# Altium integrated library TI Data Converters Analog to Digital Converter.IntLib: 2197 symbols (part 44 of 168)
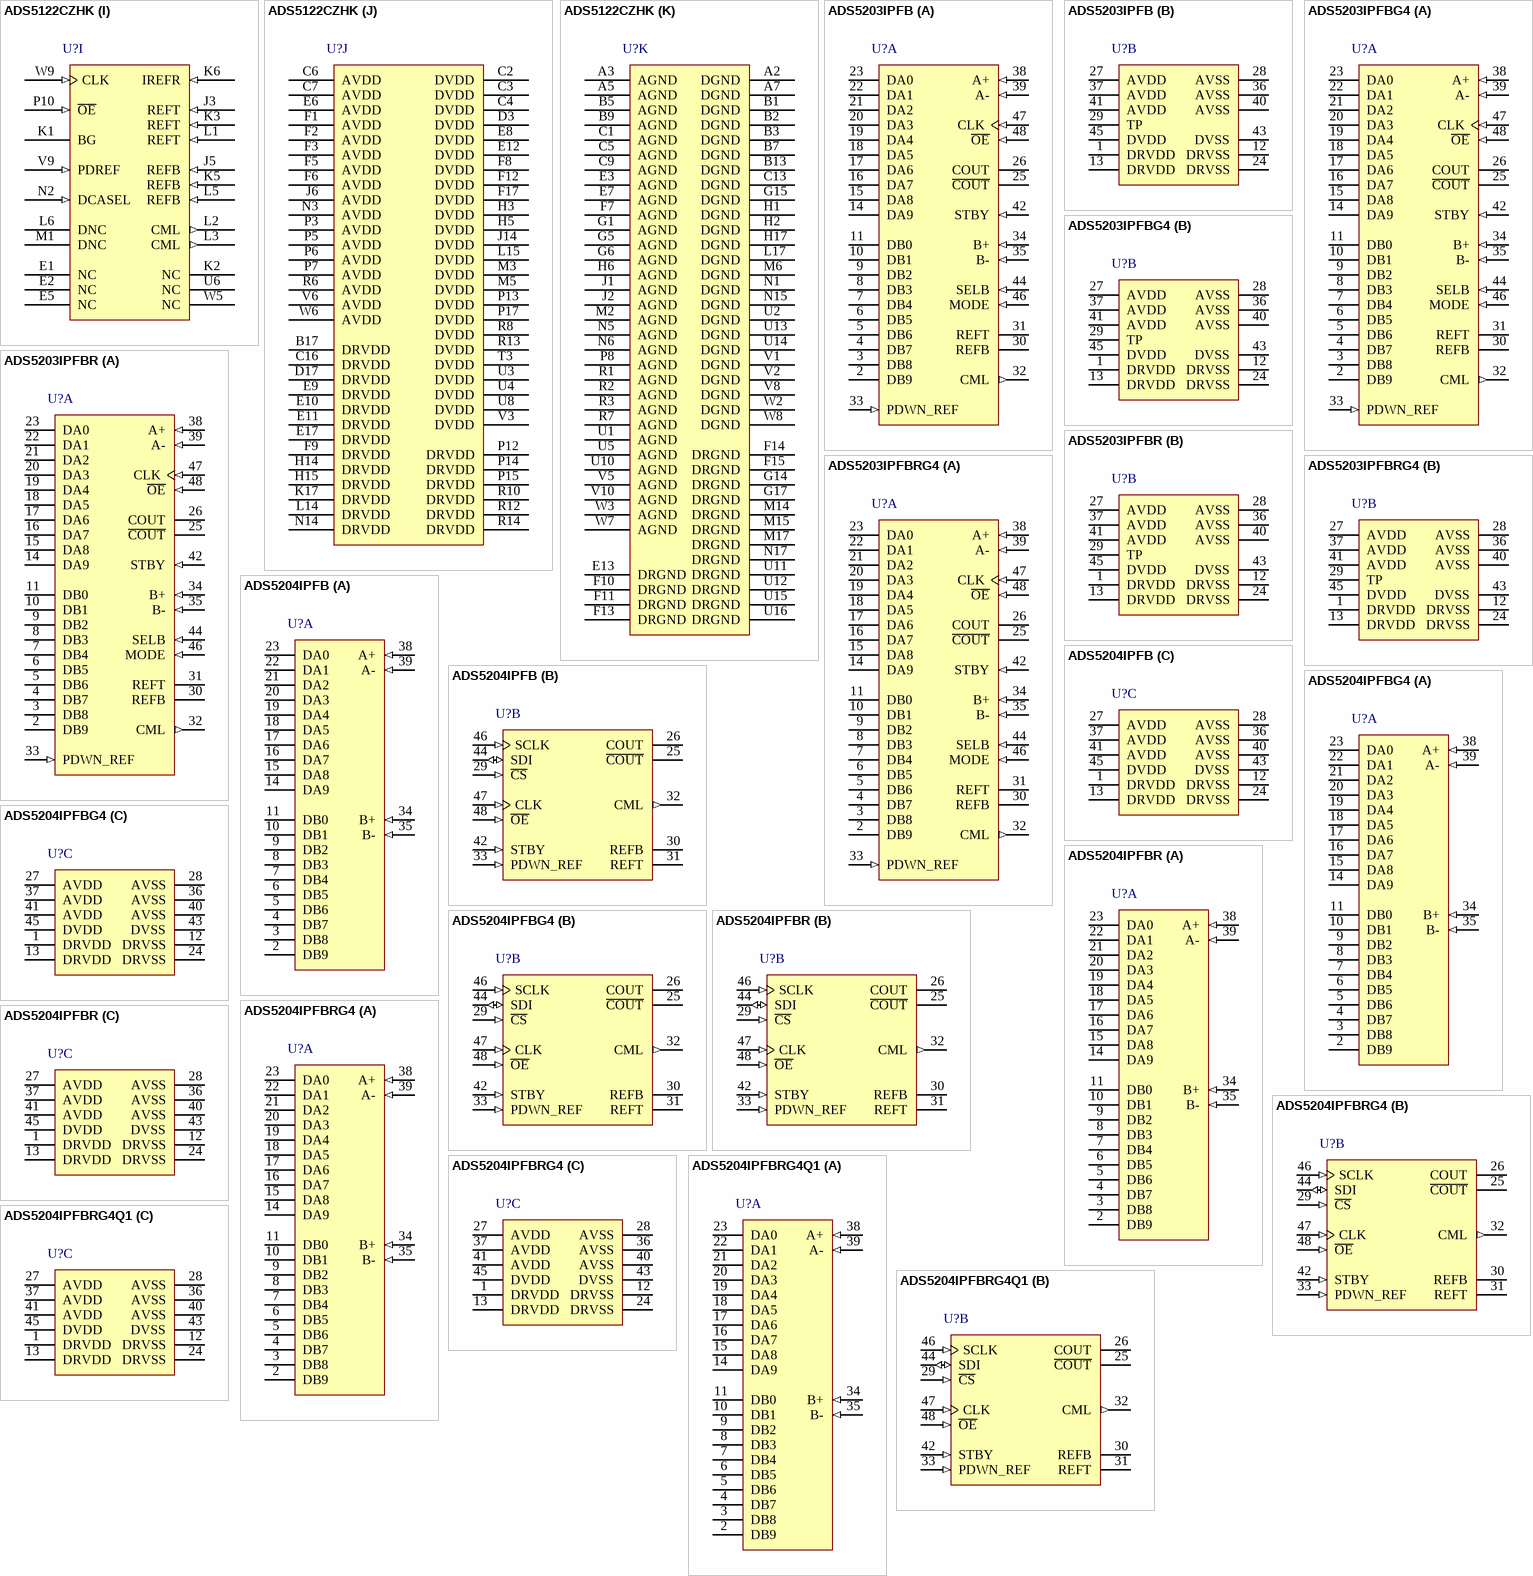
[diagram p169: symbols ADS5122CZHK to ADS5204IPFBRG4Q1]

## ADS5204IPFBRG4
designator U?
10-Bit, 40 MSPS ADC with PGA, Dual Channel, Low Power, -40 to 85 degC, 48-pin QFP (PFB48), Green (RoHS & no Sb/Br); Manufacturer: Texas Instruments; PartNumber: ADS5204IPFBRG4; # Input Channels: 2; Analog Voltage AV/DD(Max)(V): 3.6; Analog Voltage AV/DD(Min)(V): 3; Architecture: Pipeline; ENOB(Bits): 9.7; INL(Max)(+/-LSB): 1.5; Interface: Parallel CMOS, Serial SPI Interface; Resolution(Bits): 10; Sample Rate (max)(SPS): 40M; SFDR(dB): 73; SINAD(dB): 60; SNR(dB): 60.5; SubFamily: High Speed ADC (>10MSPS); DatasheetVersion: SBAS268A; PackageVersion: 4073176/B, 10/1996; PackageReference: PFB48; PackageDescription: 48-Pin Plastic Flat Pack, Body 7 x 7 mm, Pitch 0.5 mm; Supplier 1: Digi-Key; Supplier Part Number 1: ADS8323Y/2K-ND; Supplier 2: Mouser; Supplier Part Number 2: 595-ADS8323Y/2K; Digital Supply(Max)(V): 3.6; Digital Supply(Min)(V): 3; Eco-Plan: Green (RoHS & no Sb/Br); Mounting Technology: Surface Mount; Code_JEDEC: MS-026; ComponentLink1Description: Manufacturer URL; ComponentLink1URL: http://www.ti.com/; ComponentLink2Description: Datasheet; ComponentLink2URL: http://www.ti.com/general/docs/lit/getliterature.tsp?genericPartNumber=ADS5204&fileType=pdf; ComponentLink3Description: Package Specification; ComponentLink3URL: http://www.ti.com/lit/ml/mtqf019a/mtqf019a.pdf
footprint TI-PFB48_N (QFP, 48-Leads, Body 7x7mm, Pitch 0.5mm, IPC Medium Density)
footprint TI-PFB48_L (QFP, 48-Leads, Body 7x7mm, Pitch 0.5mm, IPC High Density)
footprint TI-PFB48_M (QFP, 48-Leads, Body 7x7mm, Pitch 0.5mm, IPC Low Density)
part A pins: 2 DB9 (hiz) "Data Outputs for Bus B. D9 is MSB. This is the second bus. Data is output from the B channel when dual bus output mode is selected. The data outputs are in 3-state during power-down and single-bus modes (see the Timing (See Datasheet)", 3 DB8 (hiz) "Data Outputs for Bus B. D9 is MSB. This is the second bus. Data is output from the B channel when dual bus output mode is selected. The data outputs are in 3-state during power-down and single-bus modes (see the Timing (See Datasheet)", 4 DB7 (hiz) "Data Outputs for Bus B. D9 is MSB. This is the second bus. Data is output from the B channel when dual bus output mode is selected. The data outputs are in 3-state during power-down and single-bus modes (see the Timing (See Datasheet)", 5 DB6 (hiz) "Data Outputs for Bus B. D9 is MSB. This is the second bus. Data is output from the B channel when dual bus output mode is selected. The data outputs are in 3-state during power-down and single-bus modes (see the Timing (See Datasheet)", 6 DB5 (hiz) "Data Outputs for Bus B. D9 is MSB. This is the second bus. Data is output from the B channel when dual bus output mode is selected. The data outputs are in 3-state during power-down and single-bus modes (see the Timing (See Datasheet)", 7 DB4 (hiz) "Data Outputs for Bus B. D9 is MSB. This is the second bus. Data is output from the B channel when dual bus output mode is selected. The data outputs are in 3-state during power-down and single-bus modes (see the Timing (See Datasheet)", 8 DB3 (hiz) "Data Outputs for Bus B. D9 is MSB. This is the second bus. Data is output from the B channel when dual bus output mode is selected. The data outputs are in 3-state during power-down and single-bus modes (see the Timing (See Datasheet)", 9 DB2 (hiz) "Data Outputs for Bus B. D9 is MSB. This is the second bus. Data is output from the B channel when dual bus output mode is selected. The data outputs are in 3-state during power-down and single-bus modes (see the Timing (See Datasheet)", 10 DB1 (hiz) "Data Outputs for Bus B. D9 is MSB. This is the second bus. Data is output from the B channel when dual bus output mode is selected. The data outputs are in 3-state during power-down and single-bus modes (see the Timing (See Datasheet)", 11 DB0 (hiz) "Data Outputs for Bus B. D9 is MSB. This is the second bus. Data is output from the B channel when dual bus output mode is selected. The data outputs are in 3-state during power-down and single-bus modes (see the Timing (See Datasheet)", 14 DA9 (hiz) "Data Outputs for Bus A. D9 is MSB. This is the primary bus. Data from both input channels can be output on this bus or data from channel A only. The data outputs are in 3-state during power-down (see the Register (See Datasheet)", 15 DA8 (hiz) "Data Outputs for Bus A. D9 is MSB. This is the primary bus. Data from both input channels can be output on this bus or data from channel A only. The data outputs are in 3-state during power-down (see the Register (See Datasheet)", 16 DA7 (hiz) "Data Outputs for Bus A. D9 is MSB. This is the primary bus. Data from both input channels can be output on this bus or data from channel A only. The data outputs are in 3-state during power-down (see the Register (See Datasheet)", 17 DA6 (hiz) "Data Outputs for Bus A. D9 is MSB. This is the primary bus. Data from both input channels can be output on this bus or data from channel A only. The data outputs are in 3-state during power-down (see the Register (See Datasheet)", 18 DA5 (hiz) "Data Outputs for Bus A. D9 is MSB. This is the primary bus. Data from both input channels can be output on this bus or data from channel A only. The data outputs are in 3-state during power-down (see the Register (See Datasheet)", 19 DA4 (hiz) "Data Outputs for Bus A. D9 is MSB. This is the primary bus. Data from both input channels can be output on this bus or data from channel A only. The data outputs are in 3-state during power-down (see the Register (See Datasheet)", 20 DA3 (hiz) "Data Outputs for Bus A. D9 is MSB. This is the primary bus. Data from both input channels can be output on this bus or data from channel A only. The data outputs are in 3-state during power-down (see the Register (See Datasheet)", 21 DA2 (hiz) "Data Outputs for Bus A. D9 is MSB. This is the primary bus. Data from both input channels can be output on this bus or data from channel A only. The data outputs are in 3-state during power-down (see the Register (See Datasheet)", 22 DA1 (hiz) "Data Outputs for Bus A. D9 is MSB. This is the primary bus. Data from both input channels can be output on this bus or data from channel A only. The data outputs are in 3-state during power-down (see the Register (See Datasheet)", 23 DA0 (hiz) "Data Outputs for Bus A. D9 is MSB. This is the primary bus. Data from both input channels can be output on this bus or data from channel A only. The data outputs are in 3-state during power-down (see the Register (See Datasheet)", 34 B+ (in) "Positive Input for the Analog B Channel", 35 B- (in) "Negative Input for the Analog B Channel", 38 A+ (in) "Positive Input for Analog A Channel", 39 A- (in) "Negative Input for the Analog A Channel"
part B pins: 25 ~{COUT} (hiz) "Inverted Latch Clock control for the Data Outputs. C\O\U\T\ is in 3-state during power down.", 26 COUT (hiz) "Latch Clock for the Data Outputs. COUT is in 3-state during power down.", 29 ~{CS} (in) "Serial Data Registers Chip Select", 30 REFB "Reference Voltage Bottom. The voltage at this terminal defines the bottom reference voltage for the ADC. Sufficient filtering should be applied to this input: the use of 0.1-uF capacitor between REFB and AVSS is recommended. (See Datasheet)", 31 REFT "Reference Voltage Top. The voltage at this terminal defines the top reference voltage for the ADC. Sufficient filtering should be applied to this input: the use of 0.1-uF capacitor between REFT and AVSS is highly recommended.(See Datasheet)", 32 CML (out) "Common-Mode Level. This voltage is equal to (AVDD - AVSS)/2. An external capacitor of 0.1uF should be connected between this terminal and AVSS when CML is used as a bias voltage. No capacitor is required if CML is not used.", 33 PDWN_REF (in) "Power-Down for Internal Reference Voltages. A HIGH on this terminal disables the internal reference circuit.", 42 STBY (in) "Standby Input. A high on this terminal powers down the device.", 44 SDI (io) "Serial Data I/O", 46 SCLK (in) "Serial Data Clock. Maximum clock rate is 20 MHz.", 47 CLK (in) "Clock Input. The input is sampled on each rising edge of CLK when using a 40-MHz input and alternate rising edges when using an 80-MHz input. The clock pin is referenced to AVDD and AVSS to reduce noise coupling from digital (See Datasheet)", 48 ~{OE} (in) "Output Enable. A low on this terminal will enable the data output bus, COUT and C\O\U\T\."
part C pins: 1 DRVDD (power) "Supply Voltage for Output Drivers", 12 DRVSS (power) "Digital Ground for Output Drivers", 13 DRVDD (power) "Supply Voltage for Output Drivers", 24 DRVSS (power) "Digital Ground for Output Drivers", 27 AVDD (power) "Analog Supply Voltage", 28 AVSS (power) "Analog Ground", 36 AVSS (power) "Analog Ground", 37 AVDD (power) "Analog Supply Voltage", 40 AVSS (power) "Analog Ground", 41 AVDD (power) "Analog Supply Voltage", 43 DVSS (power) "Digital Ground", 45 DVDD (power) "Digital Supply Voltage"

## ADS5204IPFBRG4Q1
designator U?
Automotive Catalog Dual 10-Bit 40 MSPS Low-Power ADC with PGA, -40 to 85 degC, 48-pin QFP (PFB48), Green (RoHS & no Sb/Br); Manufacturer: Texas Instruments; PartNumber: ADS5204IPFBRG4Q1; # Input Channels: 2; Analog Voltage AV/DD(Max)(V): 3.6; Analog Voltage AV/DD(Min)(V): 0; Architecture: Pipeline; ENOB(Bits): 9.7; INL(Max)(+/-LSB): 1.5; Resolution(Bits): 10; Sample Rate (max)(SPS): 40M; SFDR(dB): 73; SINAD(dB): 60; SNR(dB): 60.5; SubFamily: High Speed ADC (>10MSPS); DatasheetVersion: SGLS271A; PackageVersion: 4073176/B, 10/1996; PackageReference: PFB48; PackageDescription: 48-Pin Plastic Flat Pack, Body 7 x 7 mm, Pitch 0.5 mm; Supplier 1: Digi-Key; Supplier Part Number 1: ADS8323Y/2KG4-ND; Supplier 2: Mouser; Supplier Part Number 2: 595-ADS8323Y/2KG4; Digital Supply(Max)(V): 3.6; Digital Supply(Min)(V): 0; Eco-Plan: Green (RoHS & no Sb/Br); Mounting Technology: Surface Mount; Code_JEDEC: MS-026; ComponentLink1Description: Manufacturer URL; ComponentLink1URL: http://www.ti.com/; ComponentLink2Description: Datasheet; ComponentLink2URL: http://www.ti.com/general/docs/lit/getliterature.tsp?genericPartNumber=ADS5204-Q1&fileType=pdf; ComponentLink3Description: Package Specification; ComponentLink3URL: http://www.ti.com/lit/ml/mtqf019a/mtqf019a.pdf
footprint TI-PFB48_N (QFP, 48-Leads, Body 7x7mm, Pitch 0.5mm, IPC Medium Density)
footprint TI-PFB48_L (QFP, 48-Leads, Body 7x7mm, Pitch 0.5mm, IPC High Density)
footprint TI-PFB48_M (QFP, 48-Leads, Body 7x7mm, Pitch 0.5mm, IPC Low Density)
part A pins: 2 DB9 (hiz) "Data Outputs for Bus B. D9 is MSB. This is the second bus. Data is output from the B channel when dual bus output mode is selected. The data outputs are in 3-state during power-down and single-bus modes (see the Timing (See Datasheet)", 3 DB8 (hiz) "Data Outputs for Bus B. D9 is MSB. This is the second bus. Data is output from the B channel when dual bus output mode is selected. The data outputs are in 3-state during power-down and single-bus modes (see the Timing (See Datasheet)", 4 DB7 (hiz) "Data Outputs for Bus B. D9 is MSB. This is the second bus. Data is output from the B channel when dual bus output mode is selected. The data outputs are in 3-state during power-down and single-bus modes (see the Timing (See Datasheet)", 5 DB6 (hiz) "Data Outputs for Bus B. D9 is MSB. This is the second bus. Data is output from the B channel when dual bus output mode is selected. The data outputs are in 3-state during power-down and single-bus modes (see the Timing (See Datasheet)", 6 DB5 (hiz) "Data Outputs for Bus B. D9 is MSB. This is the second bus. Data is output from the B channel when dual bus output mode is selected. The data outputs are in 3-state during power-down and single-bus modes (see the Timing (See Datasheet)", 7 DB4 (hiz) "Data Outputs for Bus B. D9 is MSB. This is the second bus. Data is output from the B channel when dual bus output mode is selected. The data outputs are in 3-state during power-down and single-bus modes (see the Timing (See Datasheet)", 8 DB3 (hiz) "Data Outputs for Bus B. D9 is MSB. This is the second bus. Data is output from the B channel when dual bus output mode is selected. The data outputs are in 3-state during power-down and single-bus modes (see the Timing (See Datasheet)", 9 DB2 (hiz) "Data Outputs for Bus B. D9 is MSB. This is the second bus. Data is output from the B channel when dual bus output mode is selected. The data outputs are in 3-state during power-down and single-bus modes (see the Timing (See Datasheet)", 10 DB1 (hiz) "Data Outputs for Bus B. D9 is MSB. This is the second bus. Data is output from the B channel when dual bus output mode is selected. The data outputs are in 3-state during power-down and single-bus modes (see the Timing (See Datasheet)", 11 DB0 (hiz) "Data Outputs for Bus B. D9 is MSB. This is the second bus. Data is output from the B channel when dual bus output mode is selected. The data outputs are in 3-state during power-down and single-bus modes (see the Timing (See Datasheet)", 14 DA9 (hiz) "Data Outputs for Bus A. D9 is MSB. This is the primary bus. Data from both input channels can be output on this bus or data from channel A only. The data outputs are in 3-state during power-down (see the Register (See Datasheet)", 15 DA8 (hiz) "Data Outputs for Bus A. D9 is MSB. This is the primary bus. Data from both input channels can be output on this bus or data from channel A only. The data outputs are in 3-state during power-down (see the Register (See Datasheet)", 16 DA7 (hiz) "Data Outputs for Bus A. D9 is MSB. This is the primary bus. Data from both input channels can be output on this bus or data from channel A only. The data outputs are in 3-state during power-down (see the Register (See Datasheet)", 17 DA6 (hiz) "Data Outputs for Bus A. D9 is MSB. This is the primary bus. Data from both input channels can be output on this bus or data from channel A only. The data outputs are in 3-state during power-down (see the Register (See Datasheet)", 18 DA5 (hiz) "Data Outputs for Bus A. D9 is MSB. This is the primary bus. Data from both input channels can be output on this bus or data from channel A only. The data outputs are in 3-state during power-down (see the Register (See Datasheet)", 19 DA4 (hiz) "Data Outputs for Bus A. D9 is MSB. This is the primary bus. Data from both input channels can be output on this bus or data from channel A only. The data outputs are in 3-state during power-down (see the Register (See Datasheet)", 20 DA3 (hiz) "Data Outputs for Bus A. D9 is MSB. This is the primary bus. Data from both input channels can be output on this bus or data from channel A only. The data outputs are in 3-state during power-down (see the Register (See Datasheet)", 21 DA2 (hiz) "Data Outputs for Bus A. D9 is MSB. This is the primary bus. Data from both input channels can be output on this bus or data from channel A only. The data outputs are in 3-state during power-down (see the Register (See Datasheet)", 22 DA1 (hiz) "Data Outputs for Bus A. D9 is MSB. This is the primary bus. Data from both input channels can be output on this bus or data from channel A only. The data outputs are in 3-state during power-down (see the Register (See Datasheet)", 23 DA0 (hiz) "Data Outputs for Bus A. D9 is MSB. This is the primary bus. Data from both input channels can be output on this bus or data from channel A only. The data outputs are in 3-state during power-down (see the Register (See Datasheet)", 34 B+ (in) "Positive Input for the Analog B Channel", 35 B- (in) "Negative Input for the Analog B Channel", 38 A+ (in) "Positive Input for Analog A Channel", 39 A- (in) "Negative Input for the Analog A Channel"
part B pins: 25 ~{COUT} (hiz) "Inverted Latch Clock control for the Data Outputs. C\O\U\T\ is in 3-state during power down.", 26 COUT (hiz) "Latch Clock for the Data Outputs. COUT is in 3-state during power down.", 29 ~{CS} (in) "Serial Data Registers Chip Select", 30 REFB "Reference Voltage Bottom. The voltage at this terminal defines the bottom reference voltage for the ADC. Sufficient filtering should be applied to this input: the use of 0.1-uF capacitor between REFB and AVSS is recommended. (See Datasheet)", 31 REFT "Reference Voltage Top. The voltage at this terminal defines the top reference voltage for the ADC. Sufficient filtering should be applied to this input: the use of 0.1-uF capacitor between REFT and AVSS is highly recommended.(See Datasheet)", 32 CML (out) "Common-Mode Level. This voltage is equal to (AVDD - AVSS)/2. An external capacitor of 0.1uF should be connected between this terminal and AVSS when CML is used as a bias voltage. No capacitor is required if CML is not used.", 33 PDWN_REF (in) "Power-Down for Internal Reference Voltages. A HIGH on this terminal disables the internal reference circuit.", 42 STBY (in) "Standby Input. A high on this terminal powers down the device.", 44 SDI (io) "Serial Data I/O", 46 SCLK (in) "Serial Data Clock. Maximum clock rate is 20 MHz.", 47 CLK (in) "Clock Input. The input is sampled on each rising edge of CLK when using a 40-MHz input and alternate rising edges when using an 80-MHz input. The clock pin is referenced to AVDD and AVSS to reduce noise coupling from digital (See Datasheet)", 48 ~{OE} (in) "Output Enable. A low on this terminal will enable the data output bus, COUT and C\O\U\T\."
part C pins: 1 DRVDD (power) "Supply Voltage for Output Drivers", 12 DRVSS (power) "Digital Ground for Output Drivers", 13 DRVDD (power) "Supply Voltage for Output Drivers", 24 DRVSS (power) "Digital Ground for Output Drivers", 27 AVDD (power) "Analog Supply Voltage", 28 AVSS (power) "Analog Ground", 36 AVSS (power) "Analog Ground", 37 AVDD (power) "Analog Supply Voltage", 40 AVSS (power) "Analog Ground", 41 AVDD (power) "Analog Supply Voltage", 43 DVSS (power) "Digital Ground", 45 DVDD (power) "Digital Supply Voltage"

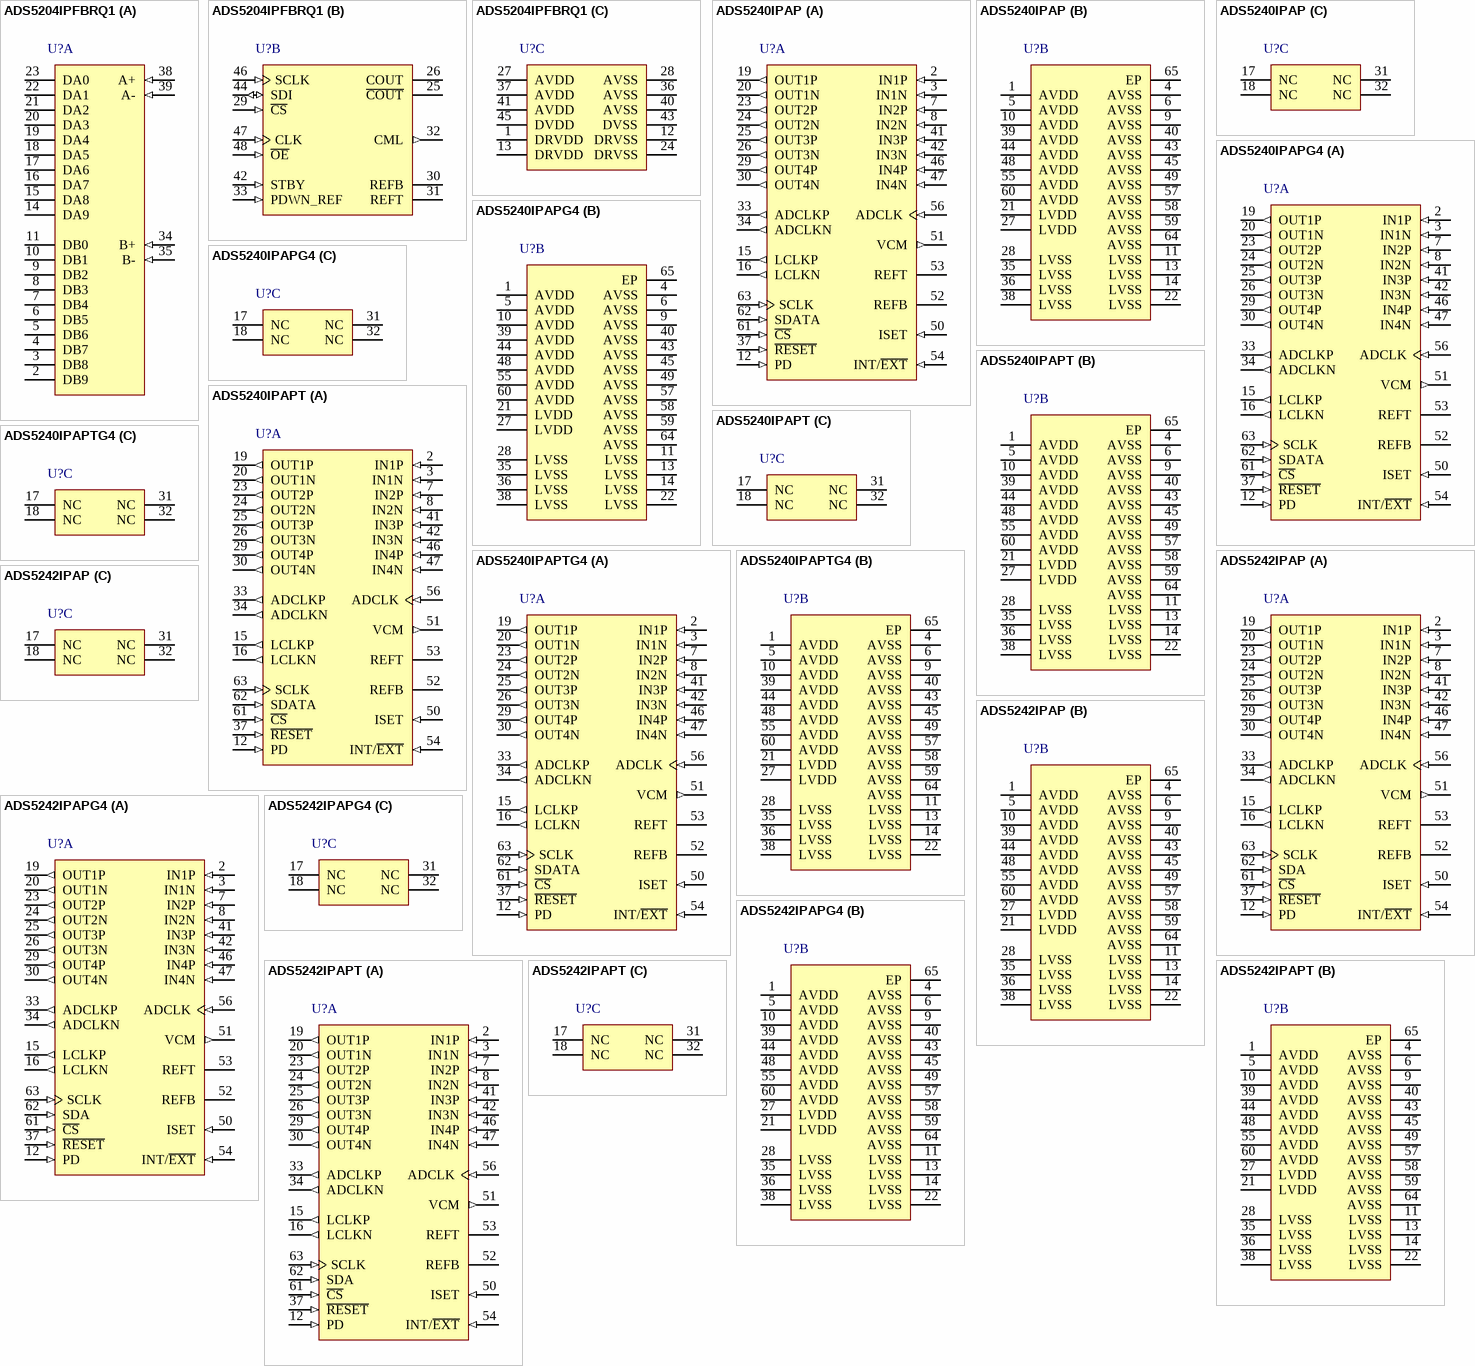
[diagram p40: symbols ADS5204IPFBRQ1 to ADS5242IPAPT]

## ADS5204IPFBRQ1
designator U?
Automotive Catalog Dual 10-Bit 40 MSPS Low-Power ADC with PGA, -40 to 85 degC, 48-pin QFP (PFB48), Green (RoHS & no Sb/Br); Manufacturer: Texas Instruments; PartNumber: ADS5204IPFBRQ1; # Input Channels: 2; Analog Voltage AV/DD(Max)(V): 3.6; Analog Voltage AV/DD(Min)(V): 0; Architecture: Pipeline; ENOB(Bits): 9.7; INL(Max)(+/-LSB): 1.5; Resolution(Bits): 10; Sample Rate (max)(SPS): 40M; SFDR(dB): 73; SINAD(dB): 60; SNR(dB): 60.5; SubFamily: High Speed ADC (>10MSPS); DatasheetVersion: SGLS271A; PackageVersion: 4073176/B, 10/1996; PackageReference: PFB48; PackageDescription: 48-Pin Plastic Flat Pack, Body 7 x 7 mm, Pitch 0.5 mm; Supplier 1: Digi-Key; Supplier Part Number 1: ADS8323YB/250TR-ND; Supplier 2: Digi-Key; Supplier Part Number 2: ADS8323YB/250CT-ND; Supplier 3: Digi-Key; Supplier Part Number 3: ADS8323YB/250DKR-ND; Supplier 4: Mouser; Supplier Part Number 4: 595-ADS8323YB/250; Digital Supply(Max)(V): 3.6; Digital Supply(Min)(V): 0; Eco-Plan: Green (RoHS & no Sb/Br); Mounting Technology: Surface Mount; Code_JEDEC: MS-026; ComponentLink1Description: Manufacturer URL; ComponentLink1URL: http://www.ti.com/; ComponentLink2Description: Datasheet; ComponentLink2URL: http://www.ti.com/general/docs/lit/getliterature.tsp?genericPartNumber=ADS5204-Q1&fileType=pdf; ComponentLink3Description: Package Specification; ComponentLink3URL: http://www.ti.com/lit/ml/mtqf019a/mtqf019a.pdf
footprint TI-PFB48_N (QFP, 48-Leads, Body 7x7mm, Pitch 0.5mm, IPC Medium Density)
footprint TI-PFB48_L (QFP, 48-Leads, Body 7x7mm, Pitch 0.5mm, IPC High Density)
footprint TI-PFB48_M (QFP, 48-Leads, Body 7x7mm, Pitch 0.5mm, IPC Low Density)
part A pins: 2 DB9 (hiz) "Data Outputs for Bus B. D9 is MSB. This is the second bus. Data is output from the B channel when dual bus output mode is selected. The data outputs are in 3-state during power-down and single-bus modes (see the Timing (See Datasheet)", 3 DB8 (hiz) "Data Outputs for Bus B. D9 is MSB. This is the second bus. Data is output from the B channel when dual bus output mode is selected. The data outputs are in 3-state during power-down and single-bus modes (see the Timing (See Datasheet)", 4 DB7 (hiz) "Data Outputs for Bus B. D9 is MSB. This is the second bus. Data is output from the B channel when dual bus output mode is selected. The data outputs are in 3-state during power-down and single-bus modes (see the Timing (See Datasheet)", 5 DB6 (hiz) "Data Outputs for Bus B. D9 is MSB. This is the second bus. Data is output from the B channel when dual bus output mode is selected. The data outputs are in 3-state during power-down and single-bus modes (see the Timing (See Datasheet)", 6 DB5 (hiz) "Data Outputs for Bus B. D9 is MSB. This is the second bus. Data is output from the B channel when dual bus output mode is selected. The data outputs are in 3-state during power-down and single-bus modes (see the Timing (See Datasheet)", 7 DB4 (hiz) "Data Outputs for Bus B. D9 is MSB. This is the second bus. Data is output from the B channel when dual bus output mode is selected. The data outputs are in 3-state during power-down and single-bus modes (see the Timing (See Datasheet)", 8 DB3 (hiz) "Data Outputs for Bus B. D9 is MSB. This is the second bus. Data is output from the B channel when dual bus output mode is selected. The data outputs are in 3-state during power-down and single-bus modes (see the Timing (See Datasheet)", 9 DB2 (hiz) "Data Outputs for Bus B. D9 is MSB. This is the second bus. Data is output from the B channel when dual bus output mode is selected. The data outputs are in 3-state during power-down and single-bus modes (see the Timing (See Datasheet)", 10 DB1 (hiz) "Data Outputs for Bus B. D9 is MSB. This is the second bus. Data is output from the B channel when dual bus output mode is selected. The data outputs are in 3-state during power-down and single-bus modes (see the Timing (See Datasheet)", 11 DB0 (hiz) "Data Outputs for Bus B. D9 is MSB. This is the second bus. Data is output from the B channel when dual bus output mode is selected. The data outputs are in 3-state during power-down and single-bus modes (see the Timing (See Datasheet)", 14 DA9 (hiz) "Data Outputs for Bus A. D9 is MSB. This is the primary bus. Data from both input channels can be output on this bus or data from channel A only. The data outputs are in 3-state during power-down (see the Register (See Datasheet)", 15 DA8 (hiz) "Data Outputs for Bus A. D9 is MSB. This is the primary bus. Data from both input channels can be output on this bus or data from channel A only. The data outputs are in 3-state during power-down (see the Register (See Datasheet)", 16 DA7 (hiz) "Data Outputs for Bus A. D9 is MSB. This is the primary bus. Data from both input channels can be output on this bus or data from channel A only. The data outputs are in 3-state during power-down (see the Register (See Datasheet)", 17 DA6 (hiz) "Data Outputs for Bus A. D9 is MSB. This is the primary bus. Data from both input channels can be output on this bus or data from channel A only. The data outputs are in 3-state during power-down (see the Register (See Datasheet)", 18 DA5 (hiz) "Data Outputs for Bus A. D9 is MSB. This is the primary bus. Data from both input channels can be output on this bus or data from channel A only. The data outputs are in 3-state during power-down (see the Register (See Datasheet)", 19 DA4 (hiz) "Data Outputs for Bus A. D9 is MSB. This is the primary bus. Data from both input channels can be output on this bus or data from channel A only. The data outputs are in 3-state during power-down (see the Register (See Datasheet)", 20 DA3 (hiz) "Data Outputs for Bus A. D9 is MSB. This is the primary bus. Data from both input channels can be output on this bus or data from channel A only. The data outputs are in 3-state during power-down (see the Register (See Datasheet)", 21 DA2 (hiz) "Data Outputs for Bus A. D9 is MSB. This is the primary bus. Data from both input channels can be output on this bus or data from channel A only. The data outputs are in 3-state during power-down (see the Register (See Datasheet)", 22 DA1 (hiz) "Data Outputs for Bus A. D9 is MSB. This is the primary bus. Data from both input channels can be output on this bus or data from channel A only. The data outputs are in 3-state during power-down (see the Register (See Datasheet)", 23 DA0 (hiz) "Data Outputs for Bus A. D9 is MSB. This is the primary bus. Data from both input channels can be output on this bus or data from channel A only. The data outputs are in 3-state during power-down (see the Register (See Datasheet)", 34 B+ (in) "Positive Input for the Analog B Channel", 35 B- (in) "Negative Input for the Analog B Channel", 38 A+ (in) "Positive Input for Analog A Channel", 39 A- (in) "Negative Input for the Analog A Channel"
part B pins: 25 ~{COUT} (hiz) "Inverted Latch Clock control for the Data Outputs. C\O\U\T\ is in 3-state during power down.", 26 COUT (hiz) "Latch Clock for the Data Outputs. COUT is in 3-state during power down.", 29 ~{CS} (in) "Serial Data Registers Chip Select", 30 REFB "Reference Voltage Bottom. The voltage at this terminal defines the bottom reference voltage for the ADC. Sufficient filtering should be applied to this input: the use of 0.1-uF capacitor between REFB and AVSS is recommended. (See Datasheet)", 31 REFT "Reference Voltage Top. The voltage at this terminal defines the top reference voltage for the ADC. Sufficient filtering should be applied to this input: the use of 0.1-uF capacitor between REFT and AVSS is highly recommended.(See Datasheet)", 32 CML (out) "Common-Mode Level. This voltage is equal to (AVDD - AVSS)/2. An external capacitor of 0.1uF should be connected between this terminal and AVSS when CML is used as a bias voltage. No capacitor is required if CML is not used.", 33 PDWN_REF (in) "Power-Down for Internal Reference Voltages. A HIGH on this terminal disables the internal reference circuit.", 42 STBY (in) "Standby Input. A high on this terminal powers down the device.", 44 SDI (io) "Serial Data I/O", 46 SCLK (in) "Serial Data Clock. Maximum clock rate is 20 MHz.", 47 CLK (in) "Clock Input. The input is sampled on each rising edge of CLK when using a 40-MHz input and alternate rising edges when using an 80-MHz input. The clock pin is referenced to AVDD and AVSS to reduce noise coupling from digital (See Datasheet)", 48 ~{OE} (in) "Output Enable. A low on this terminal will enable the data output bus, COUT and C\O\U\T\."
part C pins: 1 DRVDD (power) "Supply Voltage for Output Drivers", 12 DRVSS (power) "Digital Ground for Output Drivers", 13 DRVDD (power) "Supply Voltage for Output Drivers", 24 DRVSS (power) "Digital Ground for Output Drivers", 27 AVDD (power) "Analog Supply Voltage", 28 AVSS (power) "Analog Ground", 36 AVSS (power) "Analog Ground", 37 AVDD (power) "Analog Supply Voltage", 40 AVSS (power) "Analog Ground", 41 AVDD (power) "Analog Supply Voltage", 43 DVSS (power) "Digital Ground", 45 DVDD (power) "Digital Supply Voltage"

## ADS5240IPAP
designator U?
4-Channel, 12-Bit, 40 MSPS ADC with Serial LVDS Interface, -40 to 85 degC, 64-pin QFP (PAP64), Green (RoHS & no Sb/Br); Manufacturer: Texas Instruments; PartNumber: ADS5240IPAP; # Input Channels: 4; Analog Voltage AV/DD(Max)(V): 3.6; Analog Voltage AV/DD(Min)(V): 3; Architecture: Pipeline; ENOB(Bits): 11.3; INL(Max)(+/-LSB): 2; Interface: Parallel LVDS; Resolution(Bits): 12; Sample Rate (max)(SPS): 40M; SFDR(dB): 87; SINAD(dB): 70; SNR(dB): 70.5; SubFamily: High Speed ADC (>10MSPS); DatasheetVersion: SBAS326E; PackageVersion: 4147702/C, 08/2003; PackageReference: PAP64-5900X5900TP; PackageDescription: 64-Pin PowerPAD(TM) Plastic Quad Flatpack, Body 10 x 10 mm, Pitch 0.5 mm; Supplier 1: Digi-Key; Supplier Part Number 1: ADS8323YB/250G4-ND; Supplier 2: Mouser; Supplier Part Number 2: 595-ADS8323YB/250G4; Digital Supply(Max)(V): 3.6; Digital Supply(Min)(V): 3; Eco-Plan: Green (RoHS & no Sb/Br); Mounting Technology: Surface Mount; Code_JEDEC: MS-026; ComponentLink1Description: Manufacturer URL; ComponentLink1URL: http://www.ti.com/; ComponentLink2Description: Datasheet; ComponentLink2URL: http://www.ti.com/general/docs/lit/getliterature.tsp?genericPartNumber=ADS5240&fileType=pdf; ComponentLink3Description: Package Specification; ComponentLink3URL: http://www.ti.com/lit/ml/mpqf071b/mpqf071b.pdf
footprint TI-PAP64-5900X5900TP_N (QFP, 64-Leads, Body 10x10mm, Pitch 0.5mm, Thermal Pad 6.5x6.5mm, IPC Medium Density)
footprint TI-PAP64-5900X5900TP_L (QFP, 64-Leads, Body 10x10mm, Pitch 0.5mm, Thermal Pad 6.5x6.5mm, IPC High Density)
footprint TI-PAP64-5900X5900TP_M (QFP, 64-Leads, Body 10x10mm, Pitch 0.5mm, Thermal Pad 6.5x6.5mm, IPC Low Density)
part A pins: 2 IN1P (in) "Channel 1 Differential Analog Input High", 3 IN1N (in) "Channel 1 Differential Analog Input Low", 7 IN2P (in) "Channel 2 Differential Analog Input High", 8 IN2N (in) "Channel 2 Differential Analog Input Low", 12 PD (in) "Power-Down; 0 = Normal, 1 = Power-Down. Weak pull-down to ground.", 15 LCLKP (out) "Positive LVDS Clock", 16 LCLKN (out) "Negative LVDS Clock", 19 OUT1P (out) "Channel 1 Positive LVDS Data Output", 20 OUT1N (out) "Channel 1 Negative LVDS Data Output", 23 OUT2P (out) "Channel 2 Positive LVDS Data Output", 24 OUT2N (out) "Channel 2 Negative LVDS Data Output", 25 OUT3P (out) "Channel 3 Positive LVDS Data Output", 26 OUT3N (out) "Channel 3 Negative LVDS Data Output", 29 OUT4P (out) "Channel 4 Positive LVDS Data Output", 30 OUT4N (out) "Channel 4 Negative LVDS Data Output", 33 ADCLKP (out) "Positive LVDS ADC Clock Output", 34 ADCLKN (out) "Negative LVDS ADC Clock Output", 37 ~{RESET} (in) "Reset to Default; 0 = Reset, 1 = Normal. Weak pull-down to ground.", 41 IN3P (in) "Channel 3 Differential Analog Input High", 42 IN3N (in) "Channel 3 Differential Analog Input Low", 46 IN4P (in) "Channel 4 Differential Analog Input High", 47 IN4N (in) "Channel 4 Differential Analog Input Low", 50 ISET (in) "Bias Current Setting Resistor of 56.2kOhm to Ground", 51 VCM (out) "Common-Mode Output Voltage", 52 REFB "Reference Bottom Voltage (2Ohm resistor in series with a capacitor >= 0.1uF to ground)", 53 REFT "Reference Top Voltage (2Ohm resistor in series with a capacitor >= 0.1uF to ground)", 54 INT/~{EXT} (in) "Internal/External Reference Select; 0 = External, 1 = Internal. Weak pull-up to supply.", 56 ADCLK (in) "Data Converter Clock Input", 61 ~{CS} (in) "Chip Select; 0 = Select, 1 = No Select", 62 SDATA (in) "Serial Data Input", 63 SCLK (in) "Serial Data Clock"
part B pins: 1 AVDD (power) "Analog Power Supply", 4 AVSS (power) "Analog Ground", 5 AVDD (power) "Analog Power Supply", 6 AVSS (power) "Analog Ground", 9 AVSS (power) "Analog Ground", 10 AVDD (power) "Analog Power Supply", 11 LVSS (power) "LVDS Ground", 13 LVSS (power) "LVDS Ground", 14 LVSS (power) "LVDS Ground", 21 LVDD (power) "LVDS Power Supply", 22 LVSS (power) "LVDS Ground", 27 LVDD (power) "LVDS Power Supply", 28 LVSS (power) "LVDS Ground", 35 LVSS (power) "LVDS Ground", 36 LVSS (power) "LVDS Ground", 38 LVSS (power) "LVDS Ground", 39 AVDD (power) "Analog Power Supply", 40 AVSS (power) "Analog Ground", 43 AVSS (power) "Analog Ground", 44 AVDD (power) "Analog Power Supply", 45 AVSS (power) "Analog Ground", 48 AVDD (power) "Analog Power Supply", 49 AVSS (power) "Analog Ground", 55 AVDD (power) "Analog Power Supply", 57 AVSS (power) "Analog Ground", 58 AVSS (power) "Analog Ground", 59 AVSS (power) "Analog Ground", 60 AVDD (power) "Analog Power Supply", 64 AVSS (power) "Analog Ground", 65 EP
part C pins: 17 NC "No Connection", 18 NC "No Connection", 31 NC "No Connection", 32 NC "No Connection"

## ADS5240IPAPG4
designator U?
4-Channel, 12-Bit, 40 MSPS ADC with Serial LVDS Interface, -40 to 85 degC, 64-pin QFP (PAP64), Green (RoHS & no Sb/Br); Manufacturer: Texas Instruments; PartNumber: ADS5240IPAPG4; # Input Channels: 4; Analog Voltage AV/DD(Max)(V): 3.6; Analog Voltage AV/DD(Min)(V): 3; Architecture: Pipeline; ENOB(Bits): 11.3; INL(Max)(+/-LSB): 2; Interface: Parallel LVDS; Resolution(Bits): 12; Sample Rate (max)(SPS): 40M; SFDR(dB): 87; SINAD(dB): 70; SNR(dB): 70.5; SubFamily: High Speed ADC (>10MSPS); DatasheetVersion: SBAS326E; PackageVersion: 4147702/C, 08/2003; PackageReference: PAP64-5900X5900TP; PackageDescription: 64-Pin PowerPAD(TM) Plastic Quad Flatpack, Body 10 x 10 mm, Pitch 0.5 mm; Supplier 1: Digi-Key; Supplier Part Number 1: ADS8322Y/250TR-ND; Supplier 2: Digi-Key; Supplier Part Number 2: ADS8322Y/250CT-ND; Supplier 3: Digi-Key; Supplier Part Number 3: ADS8322Y/250DKR-ND; Supplier 4: Farnell; Supplier Part Number 4: 1575407; Supplier 5: Mouser; Supplier Part Number 5: 595-ADS8322Y/250; Digital Supply(Max)(V): 3.6; Digital Supply(Min)(V): 3; Eco-Plan: Green (RoHS & no Sb/Br); Mounting Technology: Surface Mount; Code_JEDEC: MS-026; ComponentLink1Description: Manufacturer URL; ComponentLink1URL: http://www.ti.com/; ComponentLink2Description: Datasheet; ComponentLink2URL: http://www.ti.com/general/docs/lit/getliterature.tsp?genericPartNumber=ADS5240&fileType=pdf; ComponentLink3Description: Package Specification; ComponentLink3URL: http://www.ti.com/lit/ml/mpqf071b/mpqf071b.pdf
footprint TI-PAP64-5900X5900TP_N (QFP, 64-Leads, Body 10x10mm, Pitch 0.5mm, Thermal Pad 6.5x6.5mm, IPC Medium Density)
footprint TI-PAP64-5900X5900TP_L (QFP, 64-Leads, Body 10x10mm, Pitch 0.5mm, Thermal Pad 6.5x6.5mm, IPC High Density)
footprint TI-PAP64-5900X5900TP_M (QFP, 64-Leads, Body 10x10mm, Pitch 0.5mm, Thermal Pad 6.5x6.5mm, IPC Low Density)
part A pins: 2 IN1P (in) "Channel 1 Differential Analog Input High", 3 IN1N (in) "Channel 1 Differential Analog Input Low", 7 IN2P (in) "Channel 2 Differential Analog Input High", 8 IN2N (in) "Channel 2 Differential Analog Input Low", 12 PD (in) "Power-Down; 0 = Normal, 1 = Power-Down. Weak pull-down to ground.", 15 LCLKP (out) "Positive LVDS Clock", 16 LCLKN (out) "Negative LVDS Clock", 19 OUT1P (out) "Channel 1 Positive LVDS Data Output", 20 OUT1N (out) "Channel 1 Negative LVDS Data Output", 23 OUT2P (out) "Channel 2 Positive LVDS Data Output", 24 OUT2N (out) "Channel 2 Negative LVDS Data Output", 25 OUT3P (out) "Channel 3 Positive LVDS Data Output", 26 OUT3N (out) "Channel 3 Negative LVDS Data Output", 29 OUT4P (out) "Channel 4 Positive LVDS Data Output", 30 OUT4N (out) "Channel 4 Negative LVDS Data Output", 33 ADCLKP (out) "Positive LVDS ADC Clock Output", 34 ADCLKN (out) "Negative LVDS ADC Clock Output", 37 ~{RESET} (in) "Reset to Default; 0 = Reset, 1 = Normal. Weak pull-down to ground.", 41 IN3P (in) "Channel 3 Differential Analog Input High", 42 IN3N (in) "Channel 3 Differential Analog Input Low", 46 IN4P (in) "Channel 4 Differential Analog Input High", 47 IN4N (in) "Channel 4 Differential Analog Input Low", 50 ISET (in) "Bias Current Setting Resistor of 56.2kOhm to Ground", 51 VCM (out) "Common-Mode Output Voltage", 52 REFB "Reference Bottom Voltage (2Ohm resistor in series with a capacitor >= 0.1uF to ground)", 53 REFT "Reference Top Voltage (2Ohm resistor in series with a capacitor >= 0.1uF to ground)", 54 INT/~{EXT} (in) "Internal/External Reference Select; 0 = External, 1 = Internal. Weak pull-up to supply.", 56 ADCLK (in) "Data Converter Clock Input", 61 ~{CS} (in) "Chip Select; 0 = Select, 1 = No Select", 62 SDATA (in) "Serial Data Input", 63 SCLK (in) "Serial Data Clock"
part B pins: 1 AVDD (power) "Analog Power Supply", 4 AVSS (power) "Analog Ground", 5 AVDD (power) "Analog Power Supply", 6 AVSS (power) "Analog Ground", 9 AVSS (power) "Analog Ground", 10 AVDD (power) "Analog Power Supply", 11 LVSS (power) "LVDS Ground", 13 LVSS (power) "LVDS Ground", 14 LVSS (power) "LVDS Ground", 21 LVDD (power) "LVDS Power Supply", 22 LVSS (power) "LVDS Ground", 27 LVDD (power) "LVDS Power Supply", 28 LVSS (power) "LVDS Ground", 35 LVSS (power) "LVDS Ground", 36 LVSS (power) "LVDS Ground", 38 LVSS (power) "LVDS Ground", 39 AVDD (power) "Analog Power Supply", 40 AVSS (power) "Analog Ground", 43 AVSS (power) "Analog Ground", 44 AVDD (power) "Analog Power Supply", 45 AVSS (power) "Analog Ground", 48 AVDD (power) "Analog Power Supply", 49 AVSS (power) "Analog Ground", 55 AVDD (power) "Analog Power Supply", 57 AVSS (power) "Analog Ground", 58 AVSS (power) "Analog Ground", 59 AVSS (power) "Analog Ground", 60 AVDD (power) "Analog Power Supply", 64 AVSS (power) "Analog Ground", 65 EP
part C pins: 17 NC "No Connection", 18 NC "No Connection", 31 NC "No Connection", 32 NC "No Connection"

## ADS5240IPAPT
designator U?
4-Channel, 12-Bit, 40 MSPS ADC with Serial LVDS Interface, -40 to 85 degC, 64-pin QFP (PAP64), Green (RoHS & no Sb/Br); Manufacturer: Texas Instruments; PartNumber: ADS5240IPAPT; # Input Channels: 4; Analog Voltage AV/DD(Max)(V): 3.6; Analog Voltage AV/DD(Min)(V): 3; Architecture: Pipeline; ENOB(Bits): 11.3; INL(Max)(+/-LSB): 2; Interface: Parallel LVDS; Resolution(Bits): 12; Sample Rate (max)(SPS): 40M; SFDR(dB): 87; SINAD(dB): 70; SNR(dB): 70.5; SubFamily: High Speed ADC (>10MSPS); DatasheetVersion: SBAS326E; PackageVersion: 4147702/C, 08/2003; PackageReference: PAP64-5900X5900TP; PackageDescription: 64-Pin PowerPAD(TM) Plastic Quad Flatpack, Body 10 x 10 mm, Pitch 0.5 mm; Supplier 1: Digi-Key; Supplier Part Number 1: ADS8322Y/250G4-ND; Supplier 2: Mouser; Supplier Part Number 2: 595-ADS8322Y/250G4; Digital Supply(Max)(V): 3.6; Digital Supply(Min)(V): 3; Eco-Plan: Green (RoHS & no Sb/Br); Mounting Technology: Surface Mount; Code_JEDEC: MS-026; ComponentLink1Description: Manufacturer URL; ComponentLink1URL: http://www.ti.com/; ComponentLink2Description: Datasheet; ComponentLink2URL: http://www.ti.com/general/docs/lit/getliterature.tsp?genericPartNumber=ADS5240&fileType=pdf; ComponentLink3Description: Package Specification; ComponentLink3URL: http://www.ti.com/lit/ml/mpqf071b/mpqf071b.pdf
footprint TI-PAP64-5900X5900TP_N (QFP, 64-Leads, Body 10x10mm, Pitch 0.5mm, Thermal Pad 6.5x6.5mm, IPC Medium Density)
footprint TI-PAP64-5900X5900TP_L (QFP, 64-Leads, Body 10x10mm, Pitch 0.5mm, Thermal Pad 6.5x6.5mm, IPC High Density)
footprint TI-PAP64-5900X5900TP_M (QFP, 64-Leads, Body 10x10mm, Pitch 0.5mm, Thermal Pad 6.5x6.5mm, IPC Low Density)
part A pins: 2 IN1P (in) "Channel 1 Differential Analog Input High", 3 IN1N (in) "Channel 1 Differential Analog Input Low", 7 IN2P (in) "Channel 2 Differential Analog Input High", 8 IN2N (in) "Channel 2 Differential Analog Input Low", 12 PD (in) "Power-Down; 0 = Normal, 1 = Power-Down. Weak pull-down to ground.", 15 LCLKP (out) "Positive LVDS Clock", 16 LCLKN (out) "Negative LVDS Clock", 19 OUT1P (out) "Channel 1 Positive LVDS Data Output", 20 OUT1N (out) "Channel 1 Negative LVDS Data Output", 23 OUT2P (out) "Channel 2 Positive LVDS Data Output", 24 OUT2N (out) "Channel 2 Negative LVDS Data Output", 25 OUT3P (out) "Channel 3 Positive LVDS Data Output", 26 OUT3N (out) "Channel 3 Negative LVDS Data Output", 29 OUT4P (out) "Channel 4 Positive LVDS Data Output", 30 OUT4N (out) "Channel 4 Negative LVDS Data Output", 33 ADCLKP (out) "Positive LVDS ADC Clock Output", 34 ADCLKN (out) "Negative LVDS ADC Clock Output", 37 ~{RESET} (in) "Reset to Default; 0 = Reset, 1 = Normal. Weak pull-down to ground.", 41 IN3P (in) "Channel 3 Differential Analog Input High", 42 IN3N (in) "Channel 3 Differential Analog Input Low", 46 IN4P (in) "Channel 4 Differential Analog Input High", 47 IN4N (in) "Channel 4 Differential Analog Input Low", 50 ISET (in) "Bias Current Setting Resistor of 56.2kOhm to Ground", 51 VCM (out) "Common-Mode Output Voltage", 52 REFB "Reference Bottom Voltage (2Ohm resistor in series with a capacitor >= 0.1uF to ground)", 53 REFT "Reference Top Voltage (2Ohm resistor in series with a capacitor >= 0.1uF to ground)", 54 INT/~{EXT} (in) "Internal/External Reference Select; 0 = External, 1 = Internal. Weak pull-up to supply.", 56 ADCLK (in) "Data Converter Clock Input", 61 ~{CS} (in) "Chip Select; 0 = Select, 1 = No Select", 62 SDATA (in) "Serial Data Input", 63 SCLK (in) "Serial Data Clock"
part B pins: 1 AVDD (power) "Analog Power Supply", 4 AVSS (power) "Analog Ground", 5 AVDD (power) "Analog Power Supply", 6 AVSS (power) "Analog Ground", 9 AVSS (power) "Analog Ground", 10 AVDD (power) "Analog Power Supply", 11 LVSS (power) "LVDS Ground", 13 LVSS (power) "LVDS Ground", 14 LVSS (power) "LVDS Ground", 21 LVDD (power) "LVDS Power Supply", 22 LVSS (power) "LVDS Ground", 27 LVDD (power) "LVDS Power Supply", 28 LVSS (power) "LVDS Ground", 35 LVSS (power) "LVDS Ground", 36 LVSS (power) "LVDS Ground", 38 LVSS (power) "LVDS Ground", 39 AVDD (power) "Analog Power Supply", 40 AVSS (power) "Analog Ground", 43 AVSS (power) "Analog Ground", 44 AVDD (power) "Analog Power Supply", 45 AVSS (power) "Analog Ground", 48 AVDD (power) "Analog Power Supply", 49 AVSS (power) "Analog Ground", 55 AVDD (power) "Analog Power Supply", 57 AVSS (power) "Analog Ground", 58 AVSS (power) "Analog Ground", 59 AVSS (power) "Analog Ground", 60 AVDD (power) "Analog Power Supply", 64 AVSS (power) "Analog Ground", 65 EP
part C pins: 17 NC "No Connection", 18 NC "No Connection", 31 NC "No Connection", 32 NC "No Connection"

## ADS5240IPAPTG4
designator U?
4-Channel, 12-Bit, 40 MSPS ADC with Serial LVDS Interface, -40 to 85 degC, 64-pin QFP (PAP64), Green (RoHS & no Sb/Br); Manufacturer: Texas Instruments; PartNumber: ADS5240IPAPTG4; # Input Channels: 4; Analog Voltage AV/DD(Max)(V): 3.6; Analog Voltage AV/DD(Min)(V): 3; Architecture: Pipeline; ENOB(Bits): 11.3; INL(Max)(+/-LSB): 2; Interface: Parallel LVDS; Resolution(Bits): 12; Sample Rate (max)(SPS): 40M; SFDR(dB): 87; SINAD(dB): 70; SNR(dB): 70.5; SubFamily: High Speed ADC (>10MSPS); DatasheetVersion: SBAS326E; PackageVersion: 4147702/C, 08/2003; PackageReference: PAP64-5900X5900TP; PackageDescription: 64-Pin PowerPAD(TM) Plastic Quad Flatpack, Body 10 x 10 mm, Pitch 0.5 mm; Supplier 1: Digi-Key; Supplier Part Number 1: ADS8322Y/2KTR-ND; Supplier 2: Digi-Key; Supplier Part Number 2: ADS8322Y/2KCT-ND; Supplier 3: Mouser; Supplier Part Number 3: 595-ADS8322Y/2K; Digital Supply(Max)(V): 3.6; Digital Supply(Min)(V): 3; Eco-Plan: Green (RoHS & no Sb/Br); Mounting Technology: Surface Mount; Code_JEDEC: MS-026; ComponentLink1Description: Manufacturer URL; ComponentLink1URL: http://www.ti.com/; ComponentLink2Description: Datasheet; ComponentLink2URL: http://www.ti.com/general/docs/lit/getliterature.tsp?genericPartNumber=ADS5240&fileType=pdf; ComponentLink3Description: Package Specification; ComponentLink3URL: http://www.ti.com/lit/ml/mpqf071b/mpqf071b.pdf
footprint TI-PAP64-5900X5900TP_N (QFP, 64-Leads, Body 10x10mm, Pitch 0.5mm, Thermal Pad 6.5x6.5mm, IPC Medium Density)
footprint TI-PAP64-5900X5900TP_L (QFP, 64-Leads, Body 10x10mm, Pitch 0.5mm, Thermal Pad 6.5x6.5mm, IPC High Density)
footprint TI-PAP64-5900X5900TP_M (QFP, 64-Leads, Body 10x10mm, Pitch 0.5mm, Thermal Pad 6.5x6.5mm, IPC Low Density)
part A pins: 2 IN1P (in) "Channel 1 Differential Analog Input High", 3 IN1N (in) "Channel 1 Differential Analog Input Low", 7 IN2P (in) "Channel 2 Differential Analog Input High", 8 IN2N (in) "Channel 2 Differential Analog Input Low", 12 PD (in) "Power-Down; 0 = Normal, 1 = Power-Down. Weak pull-down to ground.", 15 LCLKP (out) "Positive LVDS Clock", 16 LCLKN (out) "Negative LVDS Clock", 19 OUT1P (out) "Channel 1 Positive LVDS Data Output", 20 OUT1N (out) "Channel 1 Negative LVDS Data Output", 23 OUT2P (out) "Channel 2 Positive LVDS Data Output", 24 OUT2N (out) "Channel 2 Negative LVDS Data Output", 25 OUT3P (out) "Channel 3 Positive LVDS Data Output", 26 OUT3N (out) "Channel 3 Negative LVDS Data Output", 29 OUT4P (out) "Channel 4 Positive LVDS Data Output", 30 OUT4N (out) "Channel 4 Negative LVDS Data Output", 33 ADCLKP (out) "Positive LVDS ADC Clock Output", 34 ADCLKN (out) "Negative LVDS ADC Clock Output", 37 ~{RESET} (in) "Reset to Default; 0 = Reset, 1 = Normal. Weak pull-down to ground.", 41 IN3P (in) "Channel 3 Differential Analog Input High", 42 IN3N (in) "Channel 3 Differential Analog Input Low", 46 IN4P (in) "Channel 4 Differential Analog Input High", 47 IN4N (in) "Channel 4 Differential Analog Input Low", 50 ISET (in) "Bias Current Setting Resistor of 56.2kOhm to Ground", 51 VCM (out) "Common-Mode Output Voltage", 52 REFB "Reference Bottom Voltage (2Ohm resistor in series with a capacitor >= 0.1uF to ground)", 53 REFT "Reference Top Voltage (2Ohm resistor in series with a capacitor >= 0.1uF to ground)", 54 INT/~{EXT} (in) "Internal/External Reference Select; 0 = External, 1 = Internal. Weak pull-up to supply.", 56 ADCLK (in) "Data Converter Clock Input", 61 ~{CS} (in) "Chip Select; 0 = Select, 1 = No Select", 62 SDATA (in) "Serial Data Input", 63 SCLK (in) "Serial Data Clock"
part B pins: 1 AVDD (power) "Analog Power Supply", 4 AVSS (power) "Analog Ground", 5 AVDD (power) "Analog Power Supply", 6 AVSS (power) "Analog Ground", 9 AVSS (power) "Analog Ground", 10 AVDD (power) "Analog Power Supply", 11 LVSS (power) "LVDS Ground", 13 LVSS (power) "LVDS Ground", 14 LVSS (power) "LVDS Ground", 21 LVDD (power) "LVDS Power Supply", 22 LVSS (power) "LVDS Ground", 27 LVDD (power) "LVDS Power Supply", 28 LVSS (power) "LVDS Ground", 35 LVSS (power) "LVDS Ground", 36 LVSS (power) "LVDS Ground", 38 LVSS (power) "LVDS Ground", 39 AVDD (power) "Analog Power Supply", 40 AVSS (power) "Analog Ground", 43 AVSS (power) "Analog Ground", 44 AVDD (power) "Analog Power Supply", 45 AVSS (power) "Analog Ground", 48 AVDD (power) "Analog Power Supply", 49 AVSS (power) "Analog Ground", 55 AVDD (power) "Analog Power Supply", 57 AVSS (power) "Analog Ground", 58 AVSS (power) "Analog Ground", 59 AVSS (power) "Analog Ground", 60 AVDD (power) "Analog Power Supply", 64 AVSS (power) "Analog Ground", 65 EP
part C pins: 17 NC "No Connection", 18 NC "No Connection", 31 NC "No Connection", 32 NC "No Connection"